# Altium footprint library 28Pins_Arduino_PCBLib.PcbLib: 10 footprints
Each footprint in its own frame and in the unit in brackets; x right, y up, seen from the top. Pads: shape width x height; smd on the part's side, far side on the other; paste and mask are expansions set on the pad; w line width, h text height; cw(c..) or ccw(c..) is an arc to the next point about the centre after c.
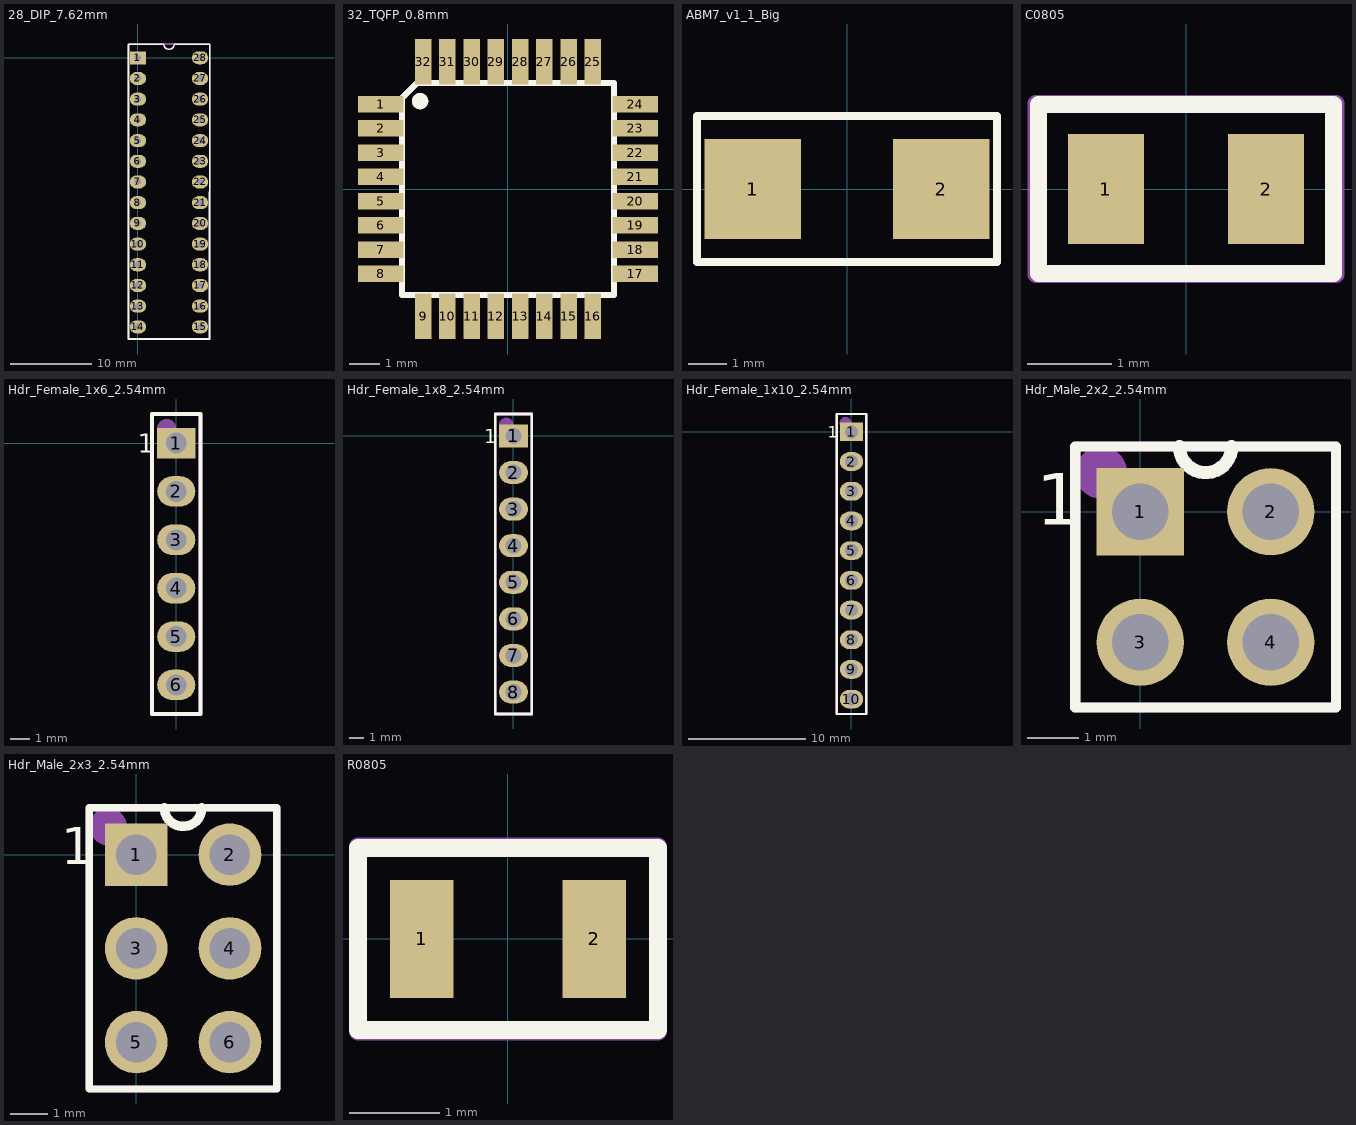
[diagram p0: the footprints below, top view; thin cyan lines are the x and y axes]

## 28_DIP_7.62mm [mm]
pads (28):
  rect 2x1.6 hole 0.8: 1(0,0)
  oval 2x1.6 hole 0.8: 2(0,-2.54) 3(0,-5.08) 4(0,-7.62) 5(0,-10.16) 6(0,-12.7) 7(0,-15.24) 8(0,-17.78) 9(0,-20.32) 10(0,-22.86) 11(0,-25.4) 12(0,-27.94) 13(0,-30.48) 14(0,-33.02) 15(7.62,-33.02) 16(7.62,-30.48) 17(7.62,-27.94) 18(7.62,-25.4) 19(7.62,-22.86) 20(7.62,-20.32) 21(7.62,-17.78) 22(7.62,-15.24) 23(7.62,-12.7) 24(7.62,-10.16) 25(7.62,-7.62) 26(7.62,-5.08) 27(7.62,-2.54) 28(7.62,0)
Top Overlay:
  lines w0.2: 8.785,-34.51 -1.165,-34.51 -1.165,0.87 -1.165,1.615 -1.11,1.67 1.835,1.67 3.175,1.67 ccw(c3.81,1.67) 4.445,1.67 8.81,1.67 8.785,-34.51 ; 8.785,-34.51 8.785,-34.51
Mechanical 29:
  circle w0.5: c0,0 r0.21
  lines w0.2: -1.19,-34.51 -1.19,1.69 8.81,1.69 8.81,-34.51 -1.19,-34.51
  text "'.Designator'" at 4.41,-23.11 h1.52
3D body "User Library-DIP-28P-M04.STEP": height 5.4, standoff -2.8, extent 0.04,-34.21 7.91,1.19

## 32_TQFP_0.8mm [mm]
pads (32):
  rect 1.5x0.55 smd mask+0.06: 1(-4.2,2.8) 2(-4.2,2) 3(-4.2,1.2) 4(-4.2,0.4) 5(-4.2,-0.4) 6(-4.2,-1.2) 7(-4.2,-2) 8(-4.2,-2.8) 17(4.2,-2.8) 18(4.2,-2) 19(4.2,-1.2) 20(4.2,-0.4) 21(4.2,0.4) 22(4.2,1.2) 23(4.2,2) 24(4.2,2.8)
  rect 0.55x1.5 smd mask+0.06: 9(-2.8,-4.2) 10(-2,-4.2) 11(-1.2,-4.2) 12(-0.4,-4.2) 13(0.4,-4.2) 14(1.2,-4.2) 15(2,-4.2) 16(2.8,-4.2) 25(2.8,4.2) 26(2,4.2) 27(1.2,4.2) 28(0.4,4.2) 29(-0.4,4.2) 30(-1.2,4.2) 31(-2,4.2) 32(-2.8,4.2)
Top Overlay:
  circle w0.254: c-2.9,2.9 r0.141
  lines w0.2: -3.5,-3.5 3.5,-3.5 3.5,3.5 -3,3.5 -3.5,3 -3.5,-3.5
Mechanical 29:
  circle w0.254: c-2.9,2.9 r0.141
  lines w0.2: -3.5,-3.5 3.5,-3.5 3.5,3.5 -2.9,3.5 -3,3.5 -3.5,3 -3.5,-3.5
  text "'.Designator'" at -2.1,0 h1.5
3D body "User Library-TQFP32-1.STEP": height 1.1, standoff 0, extent -4.509,-4.509 4.509,4.509

## ABM7_v1_1_Big [mm]
pads (2):
  rect 2.5x2.6 smd: 1(-2.45,0) 2(2.45,0)
Top Overlay:
  lines w0.2: -3.9,-1.9 3.9,-1.9 3.9,1.9 -3.9,1.9 -3.9,-1.9
Mechanical 29:
  lines w0.2: -3.9,-1.9 -3.9,1.9 3.9,1.9 3.9,-1.9 -3.9,-1.9
  text "'.Designator'" at -0.9,-0.1 h0.6
3D body "ABM7.STEP": height 1.41, standoff 0.01, extent -2.997,-1.753 2.997,1.753

## C0805 [mm]
pads (2):
  rect 0.9x1.3 smd: 1(-0.95,0) 2(0.95,0)
Top Overlay:
  lines w0.2: -1.75,-1 -1.75,1 1.75,1 1.75,-1 -1.75,-1
Mechanical 29:
  lines w0.2: -1.778,-1.016 -1.778,1.016 1.778,1.016 1.778,-1.016 -1.778,-1.016
  text "'.Designator'" at -1.27,-0.254 h0.6
3D body "CAPC2012X145N EIA 0805.step": height 1.21, standoff 0.01, extent -1,-0.688 1,0.762

## Hdr_Female_1x6_2.54mm [mm]
pads (6):
  rect 2x1.6 hole 1.1: 1(0,0)
  oval 2x1.6 hole 1.1: 2(0,-2.54) 3(0,-5.08) 4(0,-7.62) 5(0,-10.16) 6(0,-12.7)
Top Overlay:
  lines w0.2: -1.27,-14.224 1.27,-14.224 1.27,1.524 0,1.524 -1.27,1.524 -1.27,-14.224
  text "1" at -2.032,-0.508 h1
Mechanical 29:
  circle w0.5: c-0.508,0.762 r0.254
  lines w0.2: -1.27,-14.224 -1.27,1.524 1.27,1.524 1.27,-14.224 -1.27,-14.224
  text "'.Designator'" at 0.762,-8.636 h1.45
3D body "m20-7820646_asm.stp": height 8.51, standoff -2.99, extent -1.25,-14.17 1.25,1.47

## Hdr_Female_1x8_2.54mm [mm]
pads (8):
  rect 2x1.6 hole 1.1: 1(0,0)
  oval 2x1.6 hole 1.1: 2(0,-2.54) 3(0,-5.08) 4(0,-7.62) 5(0,-10.16) 6(0,-12.7) 7(0,-15.24) 8(0,-17.78)
Top Overlay:
  lines w0.2: -1.27,-19.304 1.27,-19.304 1.27,1.524 0,1.524 -1.27,1.524 -1.27,-19.304
  text "1" at -2.032,-0.508 h1
Mechanical 29:
  circle w0.5: c-0.508,0.762 r0.254
  lines w0.2: -1.27,-19.304 1.27,-19.304 1.27,1.524 -1.27,1.524 -1.27,-19.304
  text "'.Designator'" at 0.762,-17.78 h1.45
3D body "m20-7820842_asm.stp": height 8.51, standoff -2.99, extent -1.25,-19.25 1.25,1.47

## Hdr_Female_1x10_2.54mm [mm]
pads (10):
  rect 2x1.6 hole 1.1: 1(0,0)
  oval 2x1.6 hole 1.1: 2(0,-2.54) 3(0,-5.08) 4(0,-7.62) 5(0,-10.16) 6(0,-12.7) 7(0,-15.24) 8(0,-17.78) 9(0,-20.32) 10(0,-22.86)
Top Overlay:
  lines w0.2: -1.27,-24.13 -1.27,1.524 0,1.524 1.27,1.524 1.27,-24.13 -1.27,-24.13
  text "1" at -2.032,-0.508 h1
Mechanical 29:
  circle w0.5: c-0.508,0.762 r0.254
  lines w0.2: -1.27,-24.13 -1.27,1.524 1.27,1.524 1.27,-24.13 -1.27,-24.13
  text "'.Designator'" at 0.762,-18.288 h1.45
3D body "m20-7821046_asm.stp": height 8.51, standoff -2.99, extent -1.25,-24.33 1.25,1.47

## Hdr_Male_2x2_2.54mm [mm]
pads (4):
  rect 1.7x1.7 hole 1.1: 1(0,0)
  round 1.7 hole 1.1: 2(2.54,0) 3(0,-2.54) 4(2.54,-2.54)
Top Overlay:
  lines w0.2: 0.635,1.27 3.81,1.27 3.81,-3.81 -1.27,-3.81 -1.27,1.27 1.905,1.27
  lines w0.254: 0.762,1.27 ccw(c1.27,1.27) 1.778,1.27
  text "1" at -2.032,-0.254 h1
Mechanical 29:
  circle w0.508: c-0.762,0.762 r0.254
  lines w0.2: -1.27,-3.81 -1.27,1.27 3.81,1.27 3.81,-3.81 -1.27,-3.81
  lines w0.254: 0.762,1.27 ccw(c1.27,1.27) 1.778,1.27
  text "'.Designator'" at -1.27,-4.826 h0.6
3D body "m20-9760246_asm.stp": height 8.35, standoff -3.13, extent -1.27,-3.81 3.81,1.27

## Hdr_Male_2x3_2.54mm [mm]
pads (6):
  rect 1.7x1.7 hole 1.1: 1(0,0)
  round 1.7 hole 1.1: 2(2.54,0) 3(0,-2.54) 4(2.54,-2.54) 5(0,-5.08) 6(2.54,-5.08)
Top Overlay:
  lines w0.2: 0.635,1.27 3.81,1.27 3.81,-6.35 -1.27,-6.35 -1.27,1.27 1.905,1.27
  lines w0.254: 0.762,1.27 ccw(c1.27,1.27) 1.778,1.27
  text "1" at -2.032,-0.254 h1
Mechanical 29:
  circle w0.508: c-0.762,0.762 r0.254
  lines w0.2: -1.27,-6.35 -1.27,1.27 3.81,1.27 3.81,-6.35 -1.27,-6.35
  lines w0.254: 0.762,1.27 ccw(c1.27,1.27) 1.778,1.27
  text "'.Designator'" at -1.27,-7.112 h0.6
3D body "m20-9760346_asm.stp": height 8.35, standoff -3.13, extent -1.27,-6.35 3.81,1.27

## R0805 [mm]
pads (2):
  rect 0.7x1.3 smd: 1(-0.95,0) 2(0.95,0)
Top Overlay:
  lines w0.2: -1.65,-1 -1.65,0 -1.65,1 1.65,1 1.65,-1 -1.65,-1
Mechanical 29:
  lines w0.2: -1.651,-1.016 1.651,-1.016 1.651,1.016 -1.651,1.016 -1.651,-1.016
  text "'.Designator'" at -0.889,-0.127 h0.6
3D body "RESC2012X60N EIA 0805.step": height 0.61, standoff 0.01, extent -0.984,-0.6 1.016,0.6